# Altium schematic symbol library Sullins.SchLib: 2 symbols
Pins are listed as number, name and electrical type; pins without a type are passive.

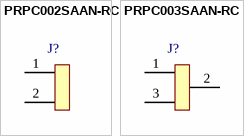
[diagram p0: symbols PRPC002SAAN-RC to PRPC003SAAN-RC]

## PRPC002SAAN-RC
designator J?  (value not drawn)
CONN HEADER .100" SNGL STR 2POS; Manufacturer: Sullins Connector Solutions; PartNumber: PRPC002SAAN-RC; Supplier 1: Digi-Key; Supplier Part Number 1: S1011EC-02-ND
footprint PIN2 (Radial Cap, Thru-Hole; 2 Leads; 0.1 in Pin Spacing)
pins: 1, 2

## PRPC003SAAN-RC
designator J?  (value not drawn)
CONN HEADER .100" SNGL STR 3POS; Manufacturer: Sullins Connector Solutions; PartNumber: PRPC003SAAN-RC; Supplier 1: Digi-Key; Supplier Part Number 1: S1011EC-03-ND
footprint PIN3
pins: 1, 2, 3